# EAGLE library part SMA420564 (library fablab_uchile)
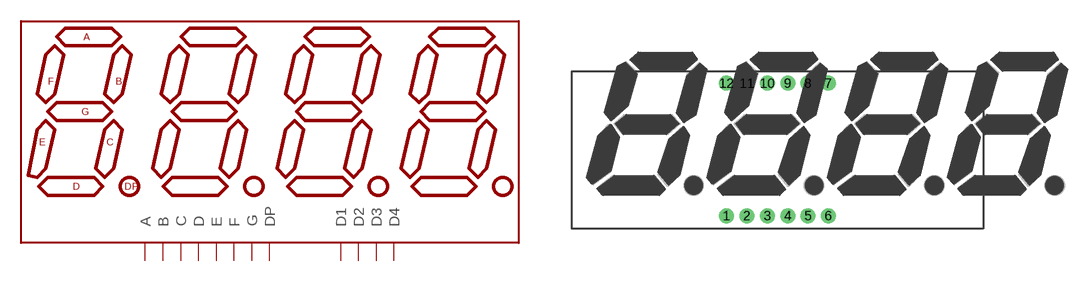
[diagram p3: symbol with the pads of 7-SEGMENT-4DIGIT-20MM; footprint 7-SEGMENT-4DIGIT-20MM]

Designator prefix -

## SMA420564  [7-SEGMENT-4DIGIT-20MM]
1  E
2  D
3  DP
4  C
5  G
6  D4
7  B
8  D3
9  D2
10  F
11  A
12  D1

## Footprint 7-SEGMENT-4DIGIT-20MM (pad centres in mm)
drill 0.9 pad 1.88: 1 -12.7,-11.379; 2 -10.16,-11.379; 3 -7.62,-11.379; 4 -5.08,-11.379; 5 -2.54,-11.379; 6 0,-11.379; 7 0,5.156; 8 -2.54,5.156; 9 -5.08,5.156; 10 -7.62,5.156; 11 -10.16,5.156; 12 -12.7,5.156